# Altium schematic symbol library BSPDLib.SchLib: 5 symbols
Pins are listed as number, name and electrical type; pins without a type are passive.

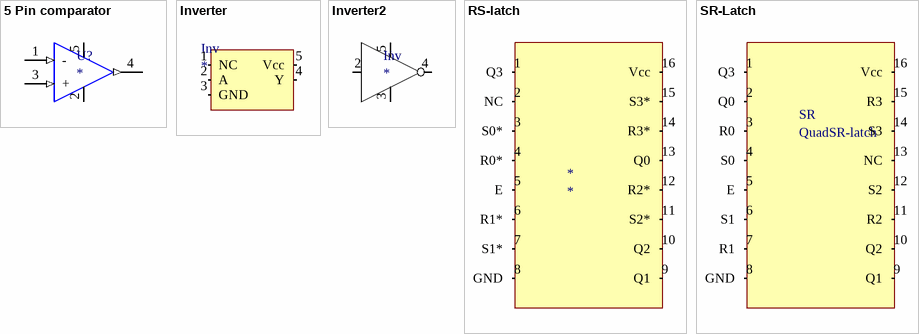
[diagram p0: symbols 5 Pin comparator to SR-Latch]

## 5 Pin comparator
designator U?
footprint SOT95P280X145-5N (SOT23, 5-Leads, Body 2,90x2,80mm, Pitch 0,95mm, IPC Medium Density)
pins: 1 - (in), 2 "GND", 3 + (in), 4 (out) "Output", 5 "Vcc"

## Inverter
designator Inv
footprint SOT95P285X140-5N (SOT23, 5-Leads, Body 3,00x2,85mm, Pitch 0,95mm, IPC Medium Density)
pins: 1 NC (in), 2 A (in), 3 GND (in), 4 Y (out), 5 Vcc (in)

## Inverter2
designator Inv
footprint SOT95P285X140-5N (SOT23, 5-Leads, Body 3,00x2,85mm, Pitch 0,95mm, IPC Medium Density)
pins: 2 "A", 3 "GND", 4 "B", 5 "Vcc"

## RS-latch
designator *
footprint SOIC127P600X175-16N (SOIC, 16-Leads, Body 9,90x3,90mm, Pitch 1,27mm, IPC Medium Density)
pins: 1 Q3, 2 NC, 3 S0*, 4 R0*, 5 E, 6 R1*, 7 S1*, 8 GND, 9 Q1, 10 Q2, 11 S2*, 12 R2*, 13 Q0, 14 R3*, 15 S3*, 16 Vcc

## SR-Latch
designator SR, comment QuadSR-latch
footprint SOIC127P600X175-16N (SOIC, 16-Leads, Body 9,90x3,90mm, Pitch 1,27mm, IPC Medium Density)
pins: 1 Q3, 2 Q0, 3 R0, 4 S0, 5 E, 6 S1, 7 R1, 8 GND, 9 Q1, 10 Q2, 11 R2, 12 S2, 13 NC, 14 S3, 15 R3, 16 Vcc